# Altium schematic symbol library ADA4062-2.SchLib: 1 symbol
Pins are listed as number, name and electrical type; pins without a type are passive.

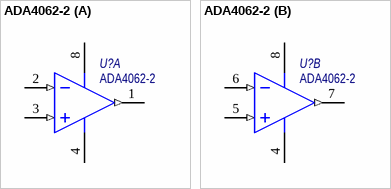
[diagram p0: symbol ADA4062-2]

## ADA4062-2
designator U?, comment Наименование: ADA4062-2  (hidden comment: ADA4062-2ARZ)
Double Channel Low Supply Current Operational Amplifier, 1.4 MHz BW, 3.3 V/us SR, Industrial, 8-pin SOIC (R-8), Tube; Назначение: Сдвоенный операционный усилитель; Потребление, Вт: 0,005; ComponentLink2Description: Datasheet; ComponentLink2URL: http://www.analog.com/static/imported-files/data_sheets/ADA4062-2_4062-4.pdf
footprint SOIC-8
pins on every part: 4 -V (power), 8 +V (power)
part A pins: 1 OUT A (out), 2 -IN A (in), 3 +IN A (in)
part B pins: 5 +IN B (in), 6 -IN B (in), 7 OUT B (out)